# Altium footprint library TE 284392-2.PcbLib: 1 footprints
Each footprint in its own frame and in the unit in brackets; x right, y up, seen from the top. Pads: shape width x height; smd on the part's side, far side on the other; paste and mask are expansions set on the pad; w line width, h text height; cw(c..) or ccw(c..) is an arc to the next point about the centre after c.
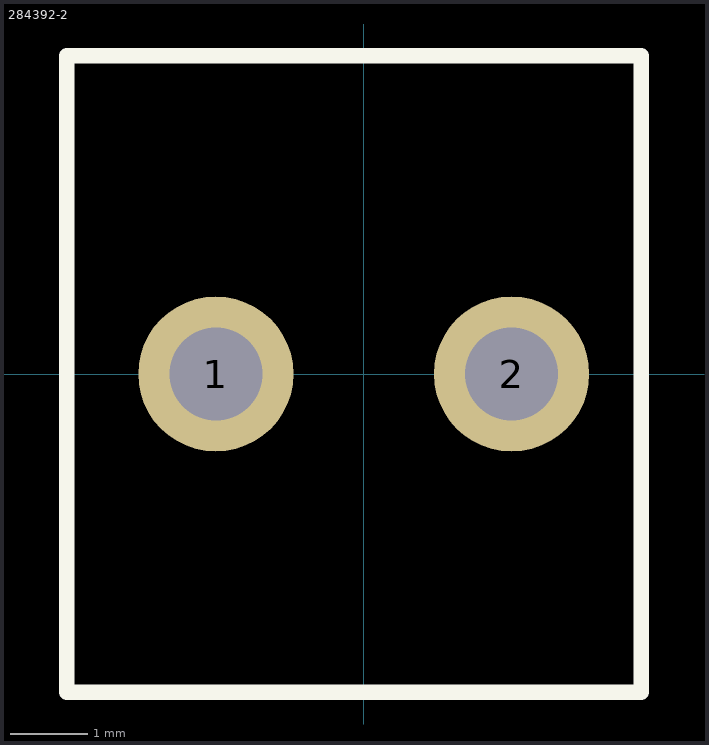
[diagram p0: the footprint, top view; thin cyan lines are the x and y axes]

## 284392-2 [mm] "PCB Terminal Blocks, Header, Wire-to-Board, 2 Positions, 3.81mm"
height 15
pads (2):
  round 2 hole 1.2: 1(-1.905,0) 2(1.905,0)
Top Overlay:
  lines w0.2: -3.825,-4.1 3.575,-4.1 3.575,4.1 -3.825,4.1 -3.825,-4.1
3D body "c-284392-2-b-3d.stp": height 12.65, standoff -3.45, extent -3.935,-4.1 4.185,4.1